# Altium integrated library Linear Technology PMIC-Switching Reg LTC1174-LTC3901.IntLib: 2647 symbols (part 240 of 310)
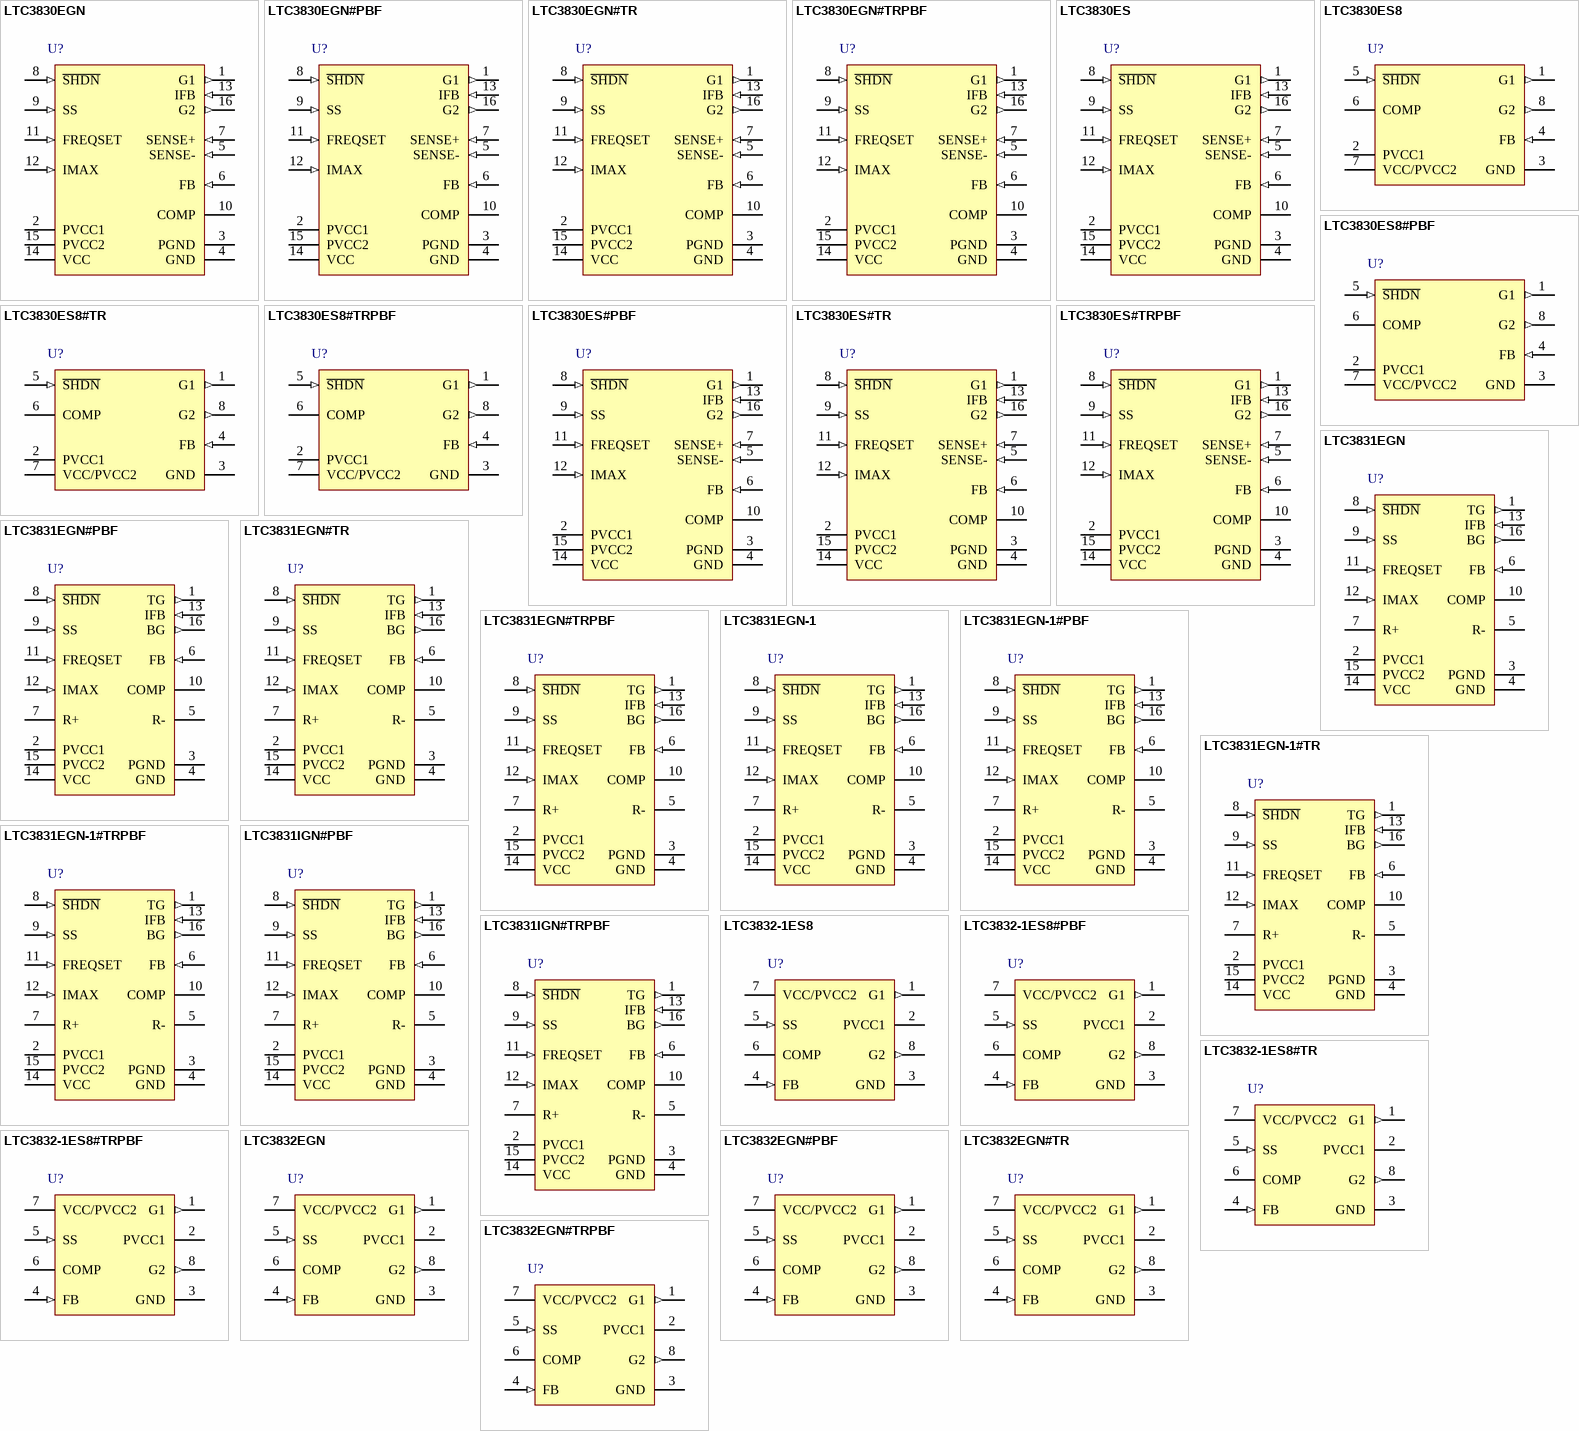
[diagram p357: symbols LTC3830EGN to LTC3832EGN#TRPBF]

## LTC3831EGN-1#TRPBF
designator U?
High Power Synchronous Switching Regulator Controller for DDR Memory Termination, 16-pin SOP (GN-16), -40 to 85 degC, Pb-Free, Tape and Reel; Manufacturer: Linear Technology; PartNumber: LTC3831EGN-1#TRPBF; Number of Outputs: 1; PackageReference: GN-16; PackageDescription: 16-Pin Plastic SSOP, Body 4.9 x 3.9 mm, Pitch 0.635 mm; Supplier 1: Digi-Key; Supplier Part Number 1: LTC3831EGN-1#TRPBF-ND; RoHS: TRUE
footprint LT-GN-16_N (SOP, 16-Leads, Body 5x4mm, Pitch 0.635mm, IPC Medium Density)
footprint LT-GN-16_L (SOP, 16-Leads, Body 5x4mm, Pitch 0.635mm, IPC High Density)
footprint LT-GN-16_M (SOP, 16-Leads, Body 5x4mm, Pitch 0.635mm, IPC Low Density)
pins: 1 TG (out) "Top Driver Output. Connect this pin to the gate of the upper N-channel MOSFET, Q1. This output swings from PGND to PVCC1. It remains low if BG is high or during shutdown mode.", 2 PVCC1 (power), 3 PGND (power) "Power Ground. Both drivers return to this pin. Connect this pin to a low impedance ground in close proximity to the source of Q2. Refer to the Layout Consideration section for more details on PCB layout techniques.", 4 GND (power), 5 R- "These two pins connect to the internal resistor divider that generate the internal ratiometric reference for the error amplifier. The reference voltage is set at 0.5 x (VR+ - VR-).", 6 FB (in), 7 R+ "These two pins connect to the internal resistor divider that generate the internal ratiometric reference for the error amplifier. The reference voltage is set at 0.5 x (VR+ - VR-).", 8 ~{SHDN} (in) "Shutdown. A TTL compatible low level at S\H\D\N\ for longer than 100us puts the LTC3831 into shutdown mode. In shutdown, TG and BG go low, all internal circuits are disabled and the quiescent current drops to 10uA max. A TTL (See Datasheet)", 9 SS (in) "Soft-Start. Connect this pin to an external capacitor, CSS, to implement a soft-start function. If the LTC3831 goes into current limit, CSS is discharged to reduce the duty cycle. CSS must be selected such that during (See Datasheet)", 10 COMP "External Compensation. This pin internally connects to the output of the error amplifier and input of the PWM comparator. Use a RC + C network at this pin to compensate the feedback loop to provide optimum transient response.", 11 FREQSET (in) "Frequency Set. Use this pin to adjust the free-running frequency of the internal oscillator. With the pin fl oating, the oscillator runs at about 200kHz. A resistor from FREQSET to ground speeds up the oscillator; a resistor (See Datasheet)", 12 IMAX (in), 13 IFB (in) "Current Limit Sense. Connect this pin to the switching node at the source of Q1 and the drain of Q2 through a 1k resistor. The 1k resistor is required to prevent voltage transients from damaging IFB.This pin is used for (See Datasheet)", 14 VCC (power) "Power Supply Input. All low power internal circuits draw their supply from this pin. This pin requires a 4.7uF bypass capacitor to GND.", 15 PVCC2 (power) "Power Supply Input for BG. Connect this pin to the main high power supply.", 16 BG (out) "Bottom Driver Output . Connect this pin to the gate of the lower N-channel MOSFET, Q2. This output swings from PGND to PVCC2. It remains low when TG is high or during shutdown mode. To prevent output undershoot during a (See Datasheet)"